# Altium integrated library Celestial Library.IntLib: 629 symbols (part 6 of 28)

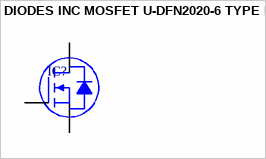
[diagram p115: symbol DIODES INC MOSFET U-DFN2020-6 TYPE E]

## DIODES INC MOSFET U-DFN2020-6 TYPE E
designator IC?
pins: D Drain, G, S


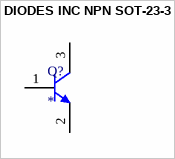
[diagram p116: symbol DIODES INC NPN SOT-23-3]

## DIODES INC NPN SOT-23-3
designator Q?
pins: 1 B, 2 E, 3 C


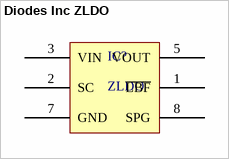
[diagram p117: symbol Diodes Inc ZLDO]

## Diodes Inc ZLDO
designator IC?, comment ZLDO
Diodes Inc 5.0 VOLT ULTRA LOW DROPOUT  REGULATOR
pins: 1 ~{LBF} "Low Battery Flag", 2 SC "Shutdown Control", 3 VIN, 5 VOUT "1uF or greater", 7 GND, 8 SPG "Shaping - 10pF to Vout"


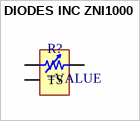
[diagram p118: symbol DIODES INC ZNI1000]

## DIODES INC ZNI1000
designator R?
SMT Resistor
pins: 1, 2, 3 TS


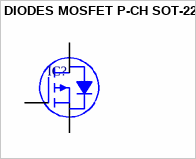
[diagram p119: symbol DIODES MOSFET P-CH SOT-223]

## DIODES MOSFET P-CH SOT-223
designator IC?
pins: 1 G, 2 D, 3 S, 4 D


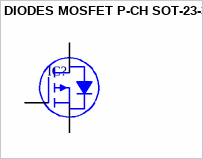
[diagram p120: symbol DIODES MOSFET P-CH SOT-23-3]

## DIODES MOSFET P-CH SOT-23-3
designator IC?
pins: 1 G, 2 S, 3 D


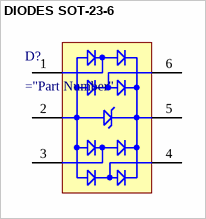
[diagram p121: symbol DIODES SOT-23-6]

## DIODES SOT-23-6
designator D?
TVS DIODE
pins: 1 I/O 1, 2 GND, 3 I/O 2, 4 I/O 3, 5 VBUS, 6 I/O 4


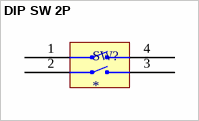
[diagram p122: symbol DIP SW 2P]

## DIP SW 2P
designator SW?
pins: 1 GND, 2 GND, 3 GND, 4 GND


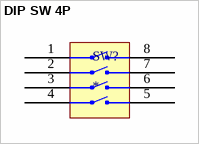
[diagram p123: symbol DIP SW 4P]

## DIP SW 4P
designator SW?
pins: 1 GND, 2 GND, 3 GND, 4 GND, 5, 6, 7, 8


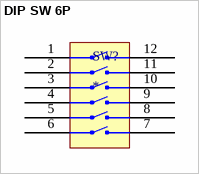
[diagram p124: symbol DIP SW 6P]

## DIP SW 6P
designator SW?
pins: 1 GND, 2 GND, 3 GND, 4 GND, 5, 6, 7, 8, 9, 10, 11, 12


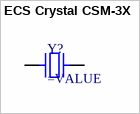
[diagram p125: symbol ECS Crystal CSM-3X]

## ECS Crystal CSM-3X
designator Y?
SMT Crystal
pins: 1, 2


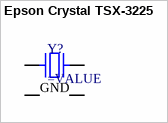
[diagram p126: symbol Epson Crystal TSX-3225]

## Epson Crystal TSX-3225
designator Y?
SMT Crystal
pins: 1, 2 GND, 3, 4 GND


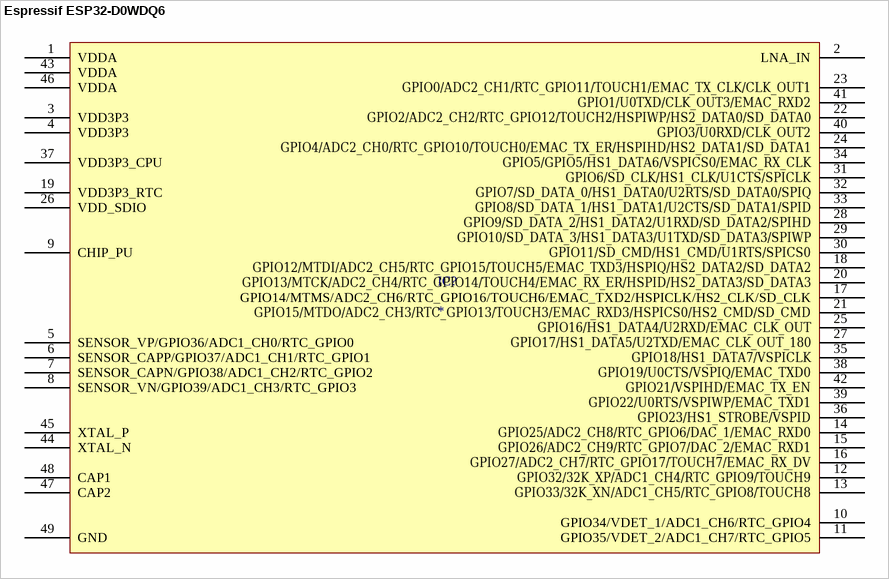
[diagram p127: symbol Espressif ESP32-D0WDQ6]

## Espressif ESP32-D0WDQ6
designator IC?
pins: 1 VDDA, 2 LNA_IN, 3 VDD3P3, 4 VDD3P3, 5 SENSOR_VP/GPIO36/ADC1_CH0/RTC_GPIO0, 6 SENSOR_CAPP/GPIO37/ADC1_CH1/RTC_GPIO1, 7 SENSOR_CAPN/GPIO38/ADC1_CH2/RTC_GPIO2, 8 SENSOR_VN/GPIO39/ADC1_CH3/RTC_GPIO3, 9 CHIP_PU, 10 GPIO34/VDET_1/ADC1_CH6/RTC_GPIO4, 11 GPIO35/VDET_2/ADC1_CH7/RTC_GPIO5, 12 GPIO32/​32K_XP/ADC1_CH4/RTC_GPIO9/TOUCH9, 13 GPIO33/​32K_XN/ADC1_CH5/RTC_GPIO8/TOUCH8, 14 ​GPIO25/ADC2_CH8/RTC_GPIO6/DAC_1/EMAC_RXD0, 15 ​GPIO26/ADC2_CH9/RTC_GPIO7/DAC_2/EMAC_RXD1, 16 ​GPIO27/ADC2_CH7/RTC_GPIO17/TOUCH7/EMAC_RX_DV, 17 GPIO14/MTMS/ADC2_CH6/RTC_GPIO16/TOUCH6/EMAC_TXD2/HSPICLK/HS2_CLK/SD_CLK, 18 GPIO12/​MTDI/ADC2_CH5/RTC_GPIO15/TOUCH5/EMAC_TXD3/HSPIQ/HS2_DATA2/SD_DATA2, 19 VDD3P3_RTC, 20 GPIO13/​MTCK/ADC2_CH4/RTC_GPIO14/TOUCH4/EMAC_RX_ER/HSPID/HS2_DATA3/SD_DATA3, 21 GPIO15/​MTDO/ADC2_CH3/RTC_GPIO13/TOUCH3/EMAC_RXD3/HSPICS0/HS2_CMD/SD_CMD, 22 ​GPIO2/ADC2_CH2/RTC_GPIO12/TOUCH2/HSPIWP/HS2_DATA0/SD_DATA0, 23 ​GPIO0/ADC2_CH1/RTC_GPIO11/TOUCH1/EMAC_TX_CLK/CLK_OUT1, 24 ​GPIO4/ADC2_CH0/RTC_GPIO10/TOUCH0/EMAC_TX_ER/HSPIHD/HS2_DATA1/SD_DATA1, 25 ​GPIO16/HS1_DATA4/U2RXD/EMAC_CLK_OUT, 26 VDD_SDIO, 27 GPIO17/​HS1_DATA5/U2TXD/EMAC_CLK_OUT_180, 28 GPIO9/​SD_DATA_2/HS1_DATA2/U1RXD/SD_DATA2/SPIHD, 29 GPIO10/​SD_DATA_3/HS1_DATA3/U1TXD/SD_DATA3/SPIWP, 30 GPIO11/​SD_CMD/HS1_CMD/U1RTS/SPICS0, 31 GPIO6/​SD_CLK/HS1_CLK/U1CTS/SPICLK, 32 GPIO7/​SD_DATA_0/HS1_DATA0/U2RTS/SD_DATA0/SPIQ, 33 GPIO8/​SD_DATA_1/HS1_DATA1/U2CTS/SD_DATA1/SPID, 34 ​GPIO5/GPIO5/HS1_DATA6/VSPICS0/EMAC_RX_CLK, 35 ​GPIO18/HS1_DATA7/VSPICLK, 36 ​GPIO23/HS1_STROBE/VSPID, 37 VDD3P3_CPU, 38 ​GPIO19/U0CTS/VSPIQ/EMAC_TXD0, 39 ​GPIO22/U0RTS/VSPIWP/EMAC_TXD1, 40 GPIO3/​U0RXD/CLK_OUT2, 41 ​GPIO1/U0TXD/CLK_OUT3/EMAC_RXD2, 42 ​GPIO21/VSPIHD/EMAC_TX_EN, 43 VDDA, 44 XTAL_N, 45 XTAL_P, 46 VDDA, 47 CAP2, 48 CAP1, 49 GND


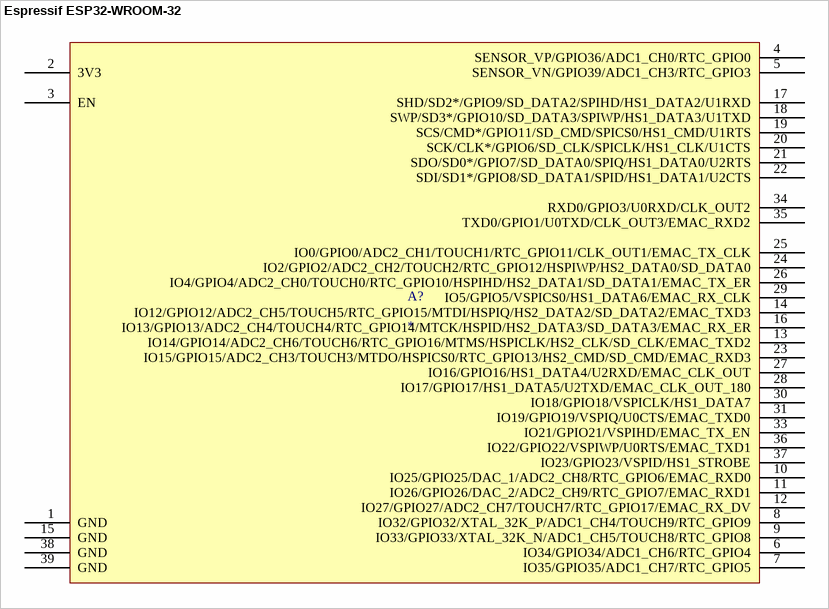
[diagram p128: symbol Espressif ESP32-WROOM-32]

## Espressif ESP32-WROOM-32
designator A?
pins: 1 GND, 2 3V3, 3 EN, 4 SENSOR_VP/GPIO36/ADC1_CH0/RTC_GPIO0, 5 SENSOR_VN/GPIO39/ADC1_CH3/RTC_GPIO3, 6 IO34/GPIO34/ADC1_CH6/RTC_GPIO4, 7 IO35/GPIO35/ADC1_CH7/RTC_GPIO5, 8 IO32/GPIO32/XTAL_32K_P/ADC1_CH4/TOUCH9/RTC_GPIO9, 9 IO33/GPIO33/XTAL_32K_N/ADC1_CH5/TOUCH8/RTC_GPIO8, 10 IO25/GPIO25/DAC_1/ADC2_CH8/RTC_GPIO6/EMAC_RXD0, 11 IO26/GPIO26/DAC_2/ADC2_CH9/RTC_GPIO7/EMAC_RXD1, 12 IO27/GPIO27/ADC2_CH7/TOUCH7/RTC_GPIO17/EMAC_RX_DV, 13 IO14/GPIO14/ADC2_CH6/TOUCH6/RTC_GPIO16/MTMS/HSPICLK/HS2_CLK/SD_CLK/EMAC_TXD2, 14 IO12/GPIO12/ADC2_CH5/TOUCH5/RTC_GPIO15/MTDI/HSPIQ/HS2_DATA2/SD_DATA2/EMAC_TXD3, 15 GND, 16 IO13/GPIO13/ADC2_CH4/TOUCH4/RTC_GPIO14/MTCK/HSPID/HS2_DATA3/SD_DATA3/EMAC_RX_ER, 17 SHD/SD2*/GPIO9/SD_DATA2/SPIHD/HS1_DATA2/U1RXD, 18 SWP/SD3*/GPIO10/SD_DATA3/SPIWP/HS1_DATA3/U1TXD, 19 SCS/CMD*/GPIO11/SD_CMD/SPICS0/HS1_CMD/U1RTS, 20 SCK/CLK*/GPIO6/SD_CLK/SPICLK/HS1_CLK/U1CTS, 21 SDO/SD0*/GPIO7/SD_DATA0/SPIQ/HS1_DATA0/U2RTS, 22 SDI/SD1*/GPIO8/SD_DATA1/SPID/HS1_DATA1/U2CTS, 23 IO15/GPIO15/ADC2_CH3/TOUCH3/MTDO/HSPICS0/RTC_GPIO13/HS2_CMD/SD_CMD/EMAC_RXD3, 24 IO2/GPIO2/ADC2_CH2/TOUCH2/RTC_GPIO12/HSPIWP/HS2_DATA0/SD_DATA0, 25 IO0/GPIO0/ADC2_CH1/TOUCH1/RTC_GPIO11/CLK_OUT1/EMAC_TX_CLK, 26 IO4/GPIO4/ADC2_CH0/TOUCH0/RTC_GPIO10/HSPIHD/HS2_DATA1/SD_DATA1/EMAC_TX_ER, 27 IO16/GPIO16/HS1_DATA4/U2RXD/EMAC_CLK_OUT, 28 IO17/GPIO17/HS1_DATA5/U2TXD/EMAC_CLK_OUT_180, 29 IO5/GPIO5/VSPICS0/HS1_DATA6/EMAC_RX_CLK, 30 IO18/GPIO18/VSPICLK/HS1_DATA7, 31 IO19/GPIO19/VSPIQ/U0CTS/EMAC_TXD0, 33 IO21/GPIO21/VSPIHD/EMAC_TX_EN, 34 RXD0/GPIO3/U0RXD/CLK_OUT2, 35 TXD0/GPIO1/U0TXD/CLK_OUT3/EMAC_RXD2, 36 IO22/GPIO22/VSPIWP/U0RTS/EMAC_TXD1, 37 IO23/GPIO23/VSPID/HS1_STROBE, 38 GND, 39 GND


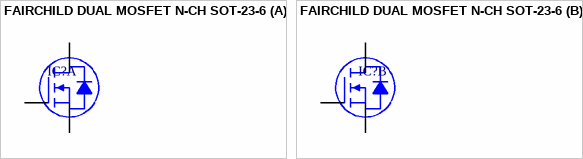
[diagram p129: symbol FAIRCHILD DUAL MOSFET N-CH SOT-23-6]

## FAIRCHILD DUAL MOSFET N-CH SOT-23-6
designator IC?
part A pins: 1 G1, 5 S1, 6 D1
part B pins: 2 S2, 3 G2, 4 D2


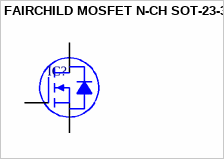
[diagram p130: symbol FAIRCHILD MOSFET N-CH SOT-23-3]

## FAIRCHILD MOSFET N-CH SOT-23-3
designator IC?
pins: 1 G, 2 S, 3 D


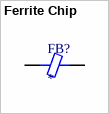
[diagram p131: symbol Ferrite Chip]

## Ferrite Chip
designator FB?
SMT Ferrite Chip
pins: 1, 2


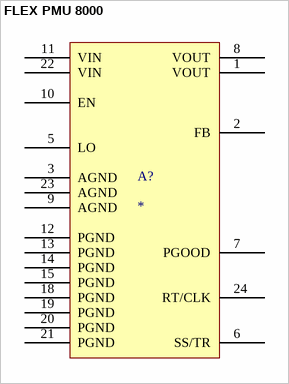
[diagram p132: symbol FLEX PMU 8000]

## FLEX PMU 8000
designator A?
pins: 1 VOUT, 2 FB, 3 AGND, 5 LO, 6 SS/TR, 7 PGOOD, 8 VOUT, 9 AGND, 10 EN, 11 VIN, 12 PGND, 13 PGND, 14 PGND, 15 PGND, 18 PGND, 19 PGND, 20 PGND, 21 PGND, 22 VIN, 23 AGND, 24 RT/CLK


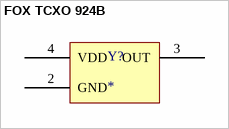
[diagram p133: symbol FOX TCXO 924B]

## FOX TCXO 924B
designator Y?
SMD TCXO
pins: 2 GND, 3 OUT, 4 VDD


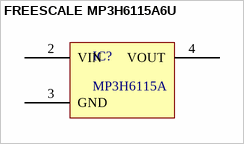
[diagram p134: symbol FREESCALE MP3H6115A6U]

## FREESCALE MP3H6115A6U
designator IC?, comment MP3H6115A
High Temperature Accuracy  Integrated Silicon Pressure Sensor  for Measuring Absolute Pressure,  On-Chip Signal Conditioned,  Temperature Compensated and  Calibrated
pins: 2 VIN, 3 GND, 4 VOUT


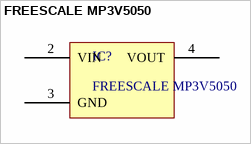
[diagram p135: symbol FREESCALE MP3V5050]

## FREESCALE MP3V5050
designator IC?
0 to 50 kPa, Differential,  and Gauge Pressure Sensor
pins: 2 VIN, 3 GND, 4 VOUT


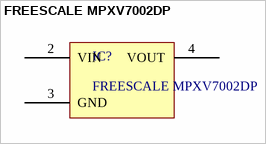
[diagram p136: symbol FREESCALE MPXV7002DP]

## FREESCALE MPXV7002DP
designator IC?
High Temperature Accuracy  Integrated Silicon Pressure Sensor  for Measuring Absolute Pressure,  On-Chip Signal Conditioned,  Temperature Compensated and  Calibrated
pins: 2 VIN, 3 GND, 4 VOUT


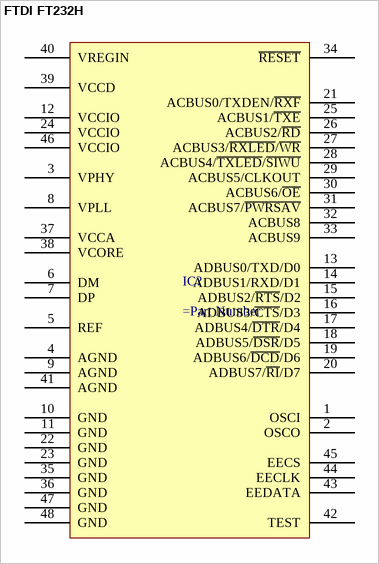
[diagram p137: symbol FTDI FT232H]

## FTDI FT232H
designator IC?
pins: 1 OSCI, 2 OSCO, 3 VPHY, 4 AGND, 5 REF, 6 DM, 7 DP, 8 VPLL, 9 AGND, 10 GND, 11 GND, 12 VCCIO, 13 ADBUS0/TXD/D0, 14 ADBUS1/RXD/D1, 15 ADBUS2/~{RTS}/D2, 16 ADBUS3/~{CTS}/D3, 17 ADBUS4/~{DTR}/D4, 18 ADBUS5/~{DSR}/D5, 19 ADBUS6/~{DCD}/D6, 20 ADBUS7/~{RI}/D7, 21 ACBUS0/TXDEN/~{RXF}, 22 GND, 23 GND, 24 VCCIO, 25 ACBUS1/~{TXE}, 26 ACBUS2/~{RD}, 27 ACBUS3/~{RXLED}/~{WR}, 28 ACBUS4/~{TXLED}/~{SIWU}, 29 ACBUS5/CLKOUT, 30 ACBUS6/~{OE}, 31 ACBUS7/~{PWRSAV}, 32 ACBUS8, 33 ACBUS9, 34 ~{RESET}, 35 GND, 36 GND, 37 VCCA, 38 VCORE, 39 VCCD, 40 VREGIN, 41 AGND, 42 TEST, 43 EEDATA, 44 EECLK, 45 EECS, 46 VCCIO, 47 GND, 48 GND
